# Altium footprint library STM32.PcbLib: 68 footprints (part 3 of 5)
Each footprint in its own frame and in the unit in brackets; x right, y up, seen from the top. Pads: shape width x height; smd on the part's side, far side on the other; paste and mask are expansions set on the pad; w line width, h text height; cw(c..) or ccw(c..) is an arc to the next point about the centre after c.
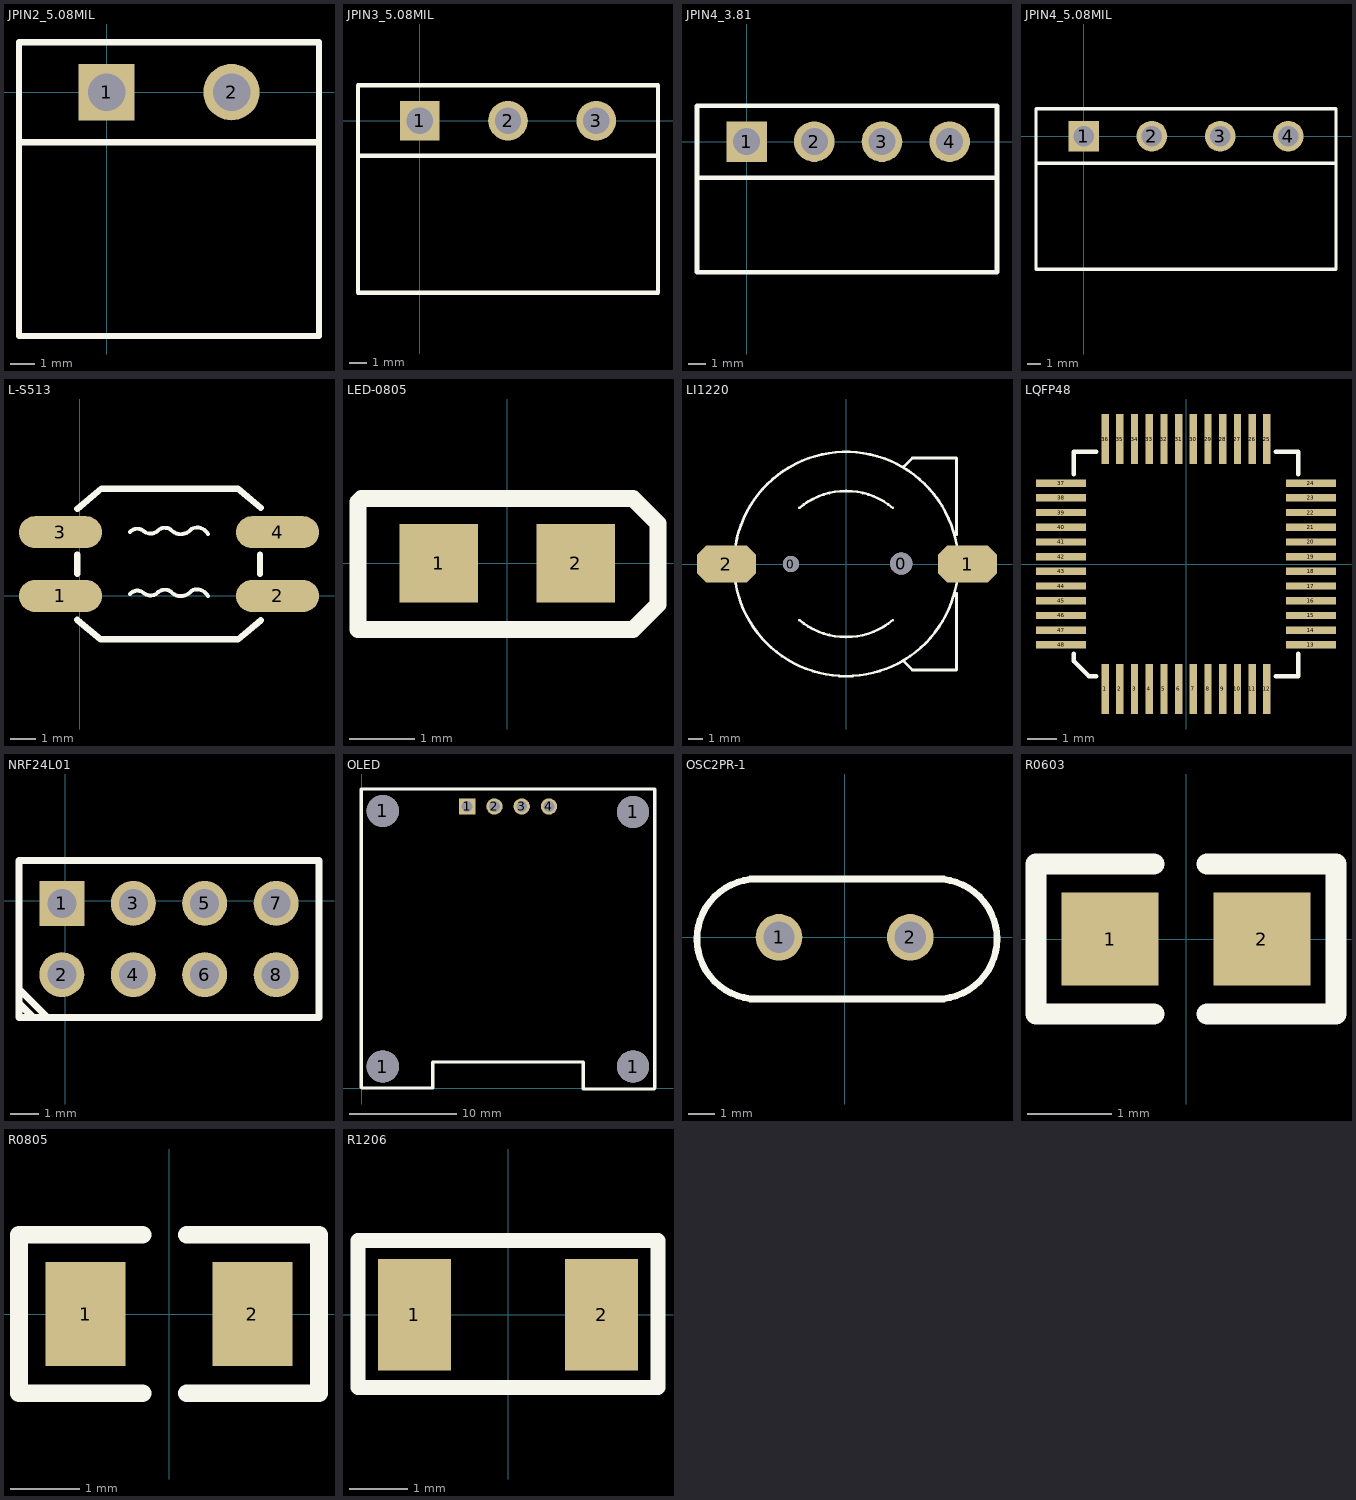
[diagram p2: the footprints below, top view; thin cyan lines are the x and y axes]

## JPIN2_5.08MIL [mil]
pads (2):
  rect 90x90 hole 60: 1(0,0)
  round 90 hole 60: 2(200,0)
Top Overlay:
  lines w10: -140,-80 340,-80 ; -140,-390 -140,80 340,80 340,-390 -140,-390

## JPIN3_5.08MIL [mil]
pads (3):
  rect 90x90 hole 60: 1(0,0)
  round 90 hole 60: 2(200,0) 3(400,0)
Top Overlay:
  lines w10: -140,-80 540,-80 ; -140,-390 540,-390 540,80 -140,80 -140,-390

## JPIN4_3.81 [mil]
pads (4):
  rect 90x90 hole 60: 1(0,0)
  round 90 hole 60: 2(150,0) 3(300,0) 4(450,0)
Top Overlay:
  lines w10: -110,-80 555,-80 ; -110,-290 555,-290 555,80 -110,80 -110,-290

## JPIN4_5.08MIL [mil]
pads (4):
  rect 90x90 hole 60: 1(0,0)
  round 90 hole 60: 2(200,0) 3(400,0) 4(600,0)
Top Overlay:
  lines w10: -140,-80 740,-80 ; -140,-390 740,-390 740,80 -140,80 -140,-390

## L-S513 [mil]
height 43.31
pads (4):
  oval 130x50 smd: 1(-30,0) 2(310,0) 3(-30,100) 4(310,100)
Top Overlay:
  lines w6: 79,3 cw(c90.5,-6.5) 100,5 ccw(c111,17) 123,6 cw(c133.5,-6.5) 146,4 ccw(c158.5,20.5) 175,8 cw(c184,-9) 201,0 ; 79,100 cw(c90.5,90.5) 100,102 ccw(c111,114) 123,103 cw(c133.5,90.5) 146,101 ccw(c158.5,117.5) 175,105 cw(c184,88) 201,97
  lines w10: -3.59,35 -3.59,65 ; 49,-68 33,-68 ; 55,168.22 34.22,168.22 ; 235,-68 248,-68 ; 237,168.22 247.78,168.22 ; 238,-68 248,-68 ; 282.59,35 282.59,65 ; 33,-68 -3.59,-37.41 33,-68 ; 33,-68 248,-68 ; 34.22,168.22 -3.59,136.41 34.22,168.22 ; 34.22,168.22 247.78,168.22 ; 247.78,168.22 284,138 247.78,168.22 ; 248,-68 284,-38 248,-68

## LED-0805 [mm]
pads (2):
  rect 1.2x1.2 smd: 1(-1.05,0) 2(1.05,0)
Top Overlay:
  lines w0.254: -2.286,-1.016 1.93,-1.016 2.311,-0.635 2.311,0.61 1.93,0.991 1.905,0.991 -2.108,0.991 -2.235,0.991 -2.286,0.94 -2.286,-1.016

## LI1220 [mm]
pads (4):
  round 1.1 hole 1.1 unplated: 0(-3.75,0)
  round 1.5 hole 1.5 unplated: 0(3.75,0.025)
  oct 4x2.5 smd: 1(8.255,0) 2(-8.128,0)
Top Overlay:
  lines w0.178: -7.574,-0.833 ccw(c0,0) 0,-7.62 ccw(c0,0) 7.574,-0.833 ; -7.574,0.833 cw(c0,0) 7.574,0.833 ; -3.172,-3.812 ccw(c0,0) 3.169,-3.815 ; -3.172,3.812 cw(c0,0) 3.175,3.81 ; 3.9,-6.6 4.5,-7.2 7.5,-7.2 7.5,-2 ; 3.925,6.625 4.5,7.2 7.5,7.2 7.5,2

## LQFP48 [mm]
pads (48):
  rect 0.25x1.7 smd: 1(-2.75,-4.25) 2(-2.25,-4.25) 3(-1.75,-4.25) 4(-1.25,-4.25) 5(-0.75,-4.25) 6(-0.25,-4.25) 7(0.25,-4.25) 8(0.75,-4.25) 9(1.25,-4.25) 10(1.75,-4.25) 11(2.25,-4.25) 12(2.75,-4.25) 25(2.75,4.25) 26(2.25,4.25) 27(1.75,4.25) 28(1.25,4.25) 29(0.75,4.25) 30(0.25,4.25) 31(-0.25,4.25) 32(-0.75,4.25) 33(-1.25,4.25) 34(-1.75,4.25) 35(-2.25,4.25) 36(-2.75,4.25)
  rect 1.7x0.25 smd: 13(4.25,-2.75) 14(4.25,-2.25) 15(4.25,-1.75) 16(4.25,-1.25) 17(4.25,-0.75) 18(4.25,-0.25) 19(4.25,0.25) 20(4.25,0.75) 21(4.25,1.25) 22(4.25,1.75) 23(4.25,2.25) 24(4.25,2.75) 37(-4.25,2.75) 38(-4.25,2.25) 39(-4.25,1.75) 40(-4.25,1.25) 41(-4.25,0.75) 42(-4.25,0.25) 43(-4.25,-0.25) 44(-4.25,-0.75) 45(-4.25,-1.25) 46(-4.25,-1.75) 47(-4.25,-2.25) 48(-4.25,-2.75)
Top Overlay:
  lines w0.152: -3.81,-3.048 -3.81,-3.302 -3.302,-3.81 -3.048,-3.81 ; -3.81,3.048 -3.81,3.81 -3.048,3.81 ; 3.048,-3.81 3.81,-3.81 3.81,-3.048 ; 3.048,3.81 3.81,3.81 3.81,3.048

## NRF24L01 [mil]
pads (8):
  rect 62x62 hole 40: 1(-4.72,-3.54)
  round 62 hole 40: 2(-4.72,-101.97) 3(93.7,-3.54) 4(93.7,-101.97) 5(192.13,-3.54) 6(192.13,-101.97) 7(290.55,-3.54) 8(290.55,-101.97)
Top Overlay:
  lines w10: -63.78,-141.34 -44.09,-161.02 ; -63.78,-121.65 -24.41,-161.02 ; -63.78,-161.02 -63.78,16.14 -63.78,55.51 349.61,55.51 349.61,-161.02 -63.78,-161.02

## OLED [mm]
pads (8):
  round 3 hole 3: 1(1.983,2) 1(1.983,25.8) 1(25.283,2) 1(25.283,25.7)
  rect 1.524x1.524 hole 1: 1(9.828,26.213)
  round 1.524 hole 1: 2(12.368,26.213) 3(14.908,26.213) 4(17.448,26.213)
Top Overlay:
  lines w0.3: 0.008,0.026 0.034,0 ; 20.631,-0.082 27.264,-0.082 ; 20.646,-0.09 20.646,2.423 6.629,2.423 6.628,2.423 6.628,0.015 0.032,0.015 -0.017,0.064 -0.017,27.839 27.263,27.839 27.288,27.813 27.288,0

## OSC2PR-1 [mil]
pads (2):
  round 70 hole 47.24: 1(-98.5,0) 2(98.5,0)
Top Overlay:
  lines w10: -141.5,-92.5 148.5,-92.5 138.5,-92.5 ccw(c138.5,-2.5) 138.5,87.5 148.5,87.5 -141.5,87.5 -131.5,87.5 ccw(c-131.5,-2.5) -131.5,-92.5 -141.5,-92.5

## PCBComponent_1 [mm]

## PCBComponent_1 - duplicate [mm]

## R0603 [mm]
pads (2):
  rect 1.15x1.1 smd: 1(-0.9,0) 2(0.9,0)
Top Overlay:
  lines w0.254: -0.381,-0.889 -1.778,-0.889 -1.778,0.889 -0.381,0.889 ; 0.254,-0.889 1.778,-0.889 1.778,0.889 0.254,0.889

## R0805 [mm]
pads (2):
  rect 1.15x1.5 smd: 1(-1.2,0) 2(1.2,0)
Top Overlay:
  lines w0.254: -0.381,-1.143 -2.159,-1.143 -2.159,1.143 -0.381,1.143 ; 0.254,-1.143 2.159,-1.143 2.159,1.143 0.254,1.143

## R1206 [mm]
pads (2):
  rect 1.25x1.9 smd: 1(-1.6,0) 2(1.6,0)
Top Overlay:
  lines w0.254: -2.565,-1.245 2.565,-1.245 2.565,1.27 -2.565,1.27 -2.565,-1.245